# Altium schematic symbol library komponente.SchLib: 21 symbols
Pins are listed as number, name and electrical type; pins without a type are passive.

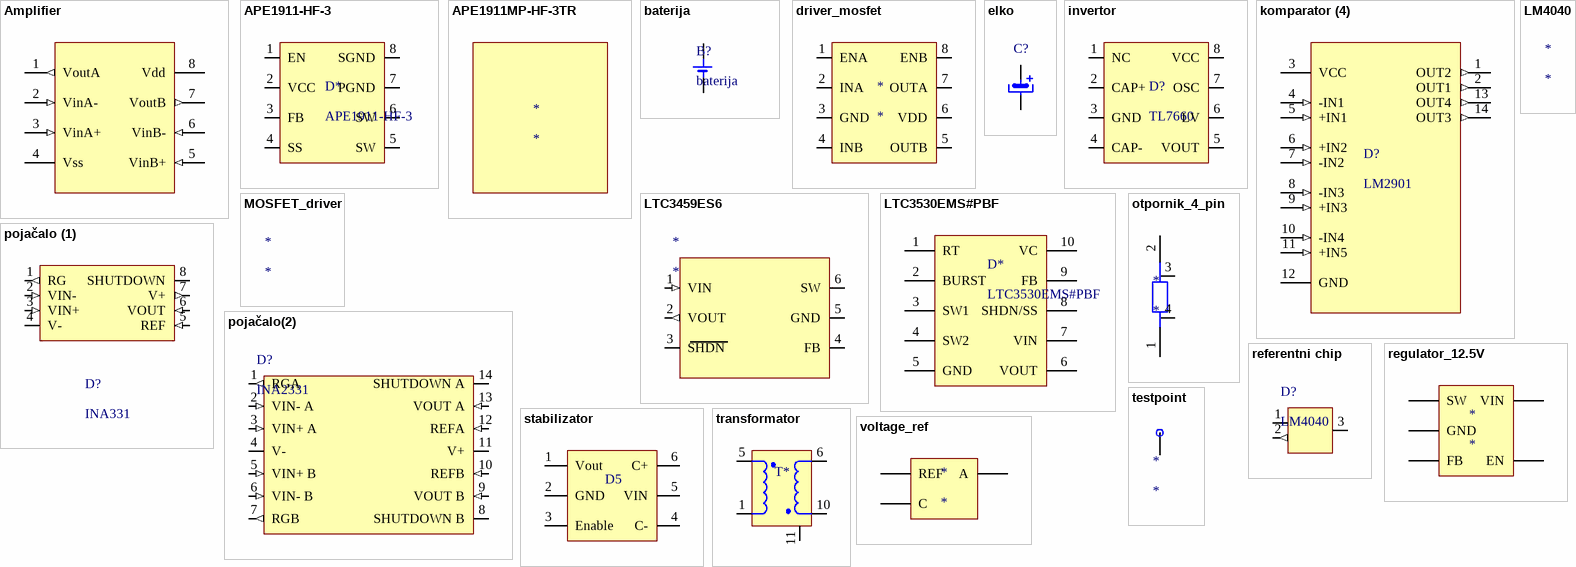
[diagram p0: symbols Amplifier to voltage_ref]

## Amplifier
designator ?
pins: 1 VoutA (out), 2 VinA- (in), 3 VinA+ (in), 4 Vss (power), 5 VinB+ (in), 6 VinB- (in), 7 VoutB (out), 8 Vdd (power)

## APE1911-HF-3
designator D*
pins: 1 EN (power), 2 VCC, 3 FB (power), 4 SS, 5 SW, 6 SW, 7 PGND, 8 SGND (power)

## APE1911MP-HF-3TR
designator *

## baterija
designator B?
pins: 0 1, 1 2

## driver_mosfet
designator *
pins: 1 ENA (power), 2 INA, 3 GND (power), 4 INB, 5 OUTB, 6 VDD, 7 OUTA, 8 ENB (power)

## elko
designator C?
pins: 1, 2

## invertor
designator D?, comment TL7660
footprint invertor
pins: 1 NC (power), 2 CAP+, 3 GND (power), 4 CAP-, 5 VOUT, 6 LV, 7 OSC, 8 VCC (power)

## komparator (4)
designator D?, comment LM2901
footprint F za komparator (4)
pins: 1 OUT2 (out), 2 OUT1 (out), 3 VCC (power), 4 -IN1 (in), 5 +IN1 (in), 6 +IN2 (in), 7 -IN2 (in), 8 -IN3 (in), 9 +IN3 (in), 10 -IN4 (in), 11 +IN5 (in), 12 GND, 13 OUT4 (out), 14 OUT3 (out)

## LM4040
designator *

## LTC3459ES6
designator *
pins: 1 VIN (in), 2 VOUT (out), 3 SHDN, 4 FB, 5 GND (power), 6 SW

## LTC3530EMS#PBF
designator D*
pins: 1 RT, 2 BURST, 3 SW1, 4 SW2, 5 GND, 6 VOUT, 7 VIN, 8 SHDN/SS, 9 FB, 10 VC

## MOSFET_driver
designator *

## otpornik_4_pin
designator *
pins: 1, 2, 3, 4

## pojačalo (1)
designator D?, comment INA331
footprint F za pojačalo (1)
pins: 1 RG (out), 2 VIN- (in), 3 VIN+ (in), 4 V- (power), 5 REF (in), 6 VOUT (in), 7 V+ (out), 8 SHUTDOWN (power)

## pojačalo(2)
designator D?, comment INA2331
footprint F za pojacalo(2)
pins: 1 RGA (out), 2 VIN- A (in), 3 VIN+ A (in), 4 V- (power), 5 VIN+ B (in), 6 VIN- B (in), 7 RGB (out), 8 SHUTDOWN B (power), 9 VOUT B (in), 10 REFB (in), 11 V+ (power), 12 REFA (in), 13 VOUT A (in), 14 SHUTDOWN A (power)

## referentni chip
designator D?, comment LM4040
pins: 1 (io), 2 (out), 3

## regulator_12.5V
designator *
pins: 1 SW, 2 GND, 3 FB, 4 EN, 5 VIN

## stabilizator
designator D5  (value not drawn)
pins: 1 Vout, 2 GND, 3 Enable, 4 C-, 5 VIN, 6 C+

## testpoint
designator *
pins: 1

## transformator
designator T*  (value not drawn)
pins: 1, 5, 6, 10, 11

## voltage_ref
designator *
pins: 1 REF, 2 C, 3 A